# Altium footprint library Molex Footprints.PcbLib: 498 footprints (part 12 of 32)
Each footprint in its own frame and in the unit in brackets; x right, y up, seen from the top. Pads: shape width x height; smd on the part's side, far side on the other; paste and mask are expansions set on the pad; w line width, h text height; cw(c..) or ccw(c..) is an arc to the next point about the centre after c.
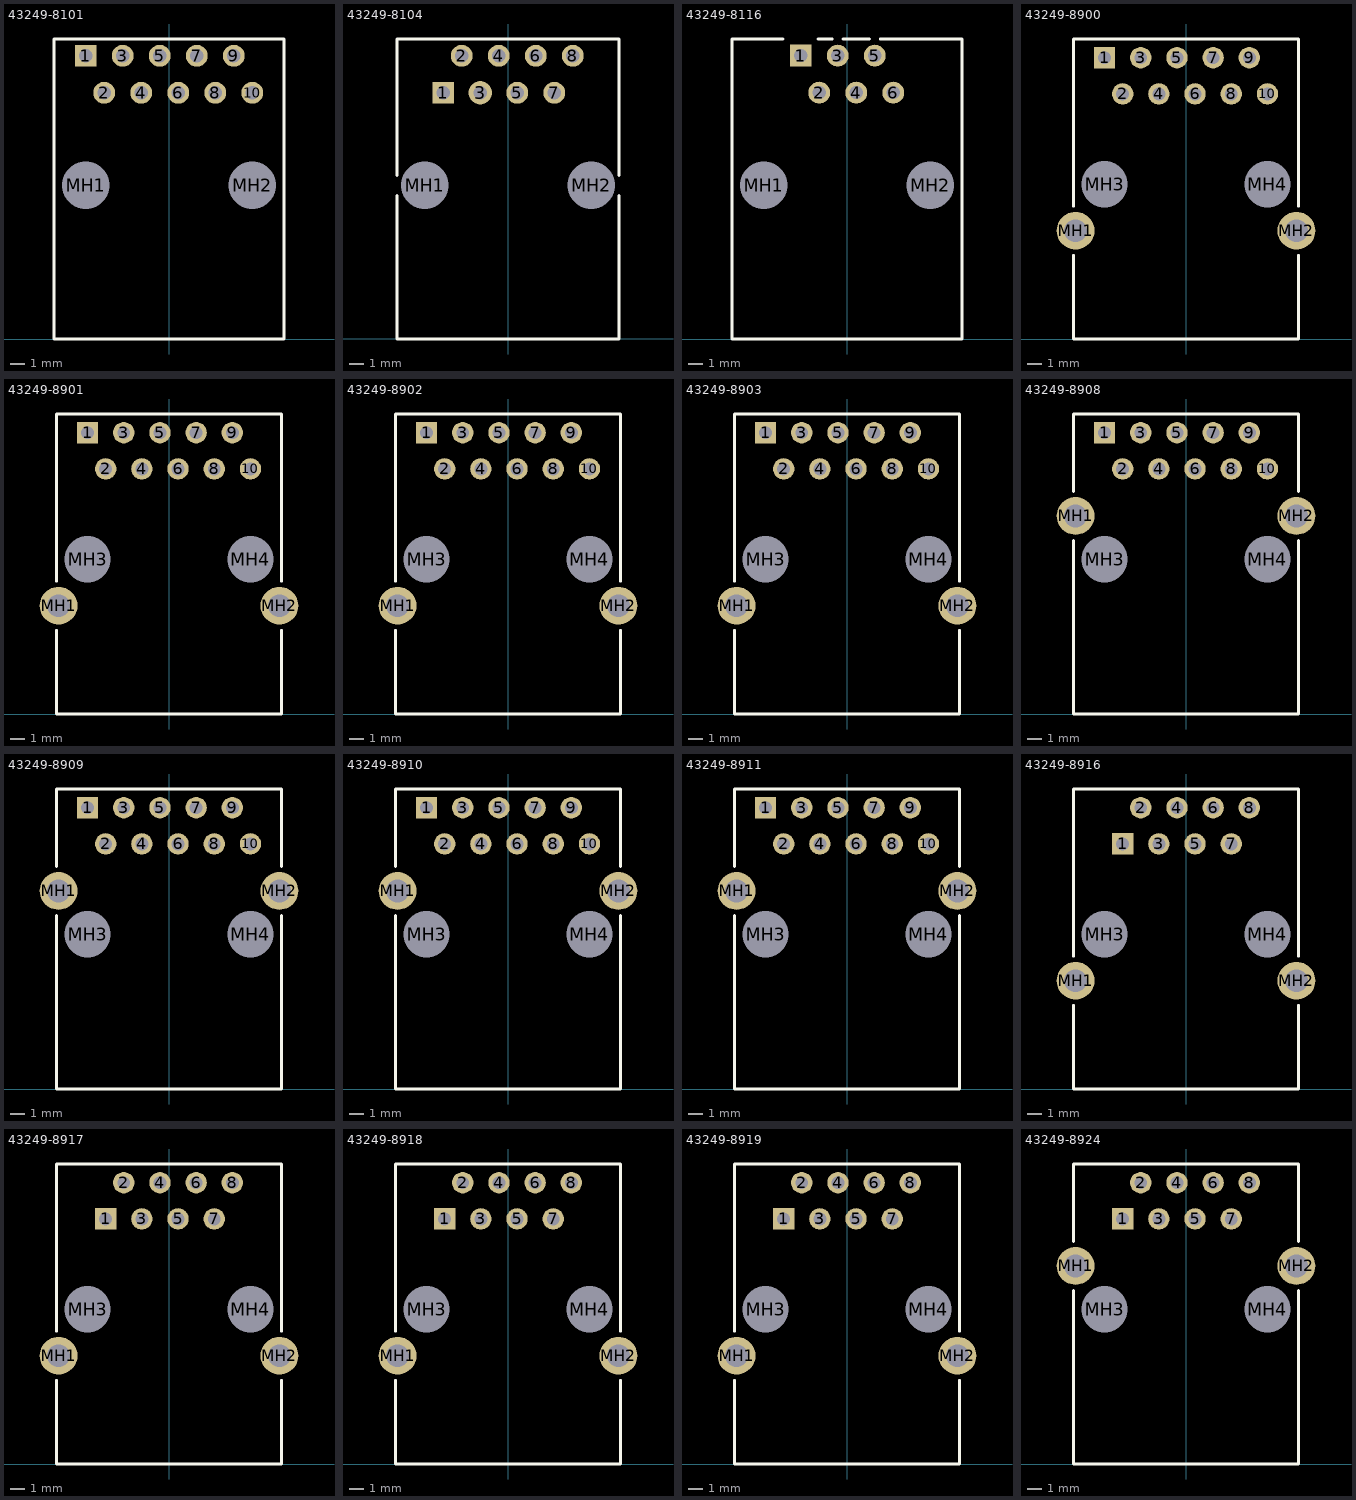
[diagram p11: the footprints below, top view; thin cyan lines are the x and y axes]

## 43249-8101 [mm] "Connector; PCB Jack, Thru-Hole; 1-Port, 8 Positions, 10 Loaded; Shielded without Lightpipes; Right Angle"
height 12.83
pads (12):
  rect 1.5x1.5 hole 0.9: 1(-5.715,19.43)
  round 1.5 hole 0.9: 2(-4.445,16.89) 3(-3.175,19.43) 4(-1.905,16.89) 5(-0.635,19.43) 6(0.635,16.89) 7(1.905,19.43) 8(3.175,16.89) 9(4.445,19.43) 10(5.715,16.89)
  round 2.95 hole 3.25 unplated: MH1(-5.715,10.54) MH2(5.715,10.54)
Top Overlay:
  lines w0.2: -7.875,0 7.875,0 7.875,20.58 -7.875,20.58 -7.875,0

## 43249-8104 [mm] "Connector; PCB Jack, Thru-Hole; 1-Port, 8 Positions, 8 Loaded; Unshielded without Lightpipes; Right Angle"
height 12.83
pads (10):
  rect 1.5x1.5 hole 0.9: 1(-4.445,16.89)
  round 1.5 hole 0.9: 2(-3.175,19.43) 4(-0.635,19.43) 5(0.635,16.89) 6(1.905,19.43) 7(3.175,16.89) 8(4.445,19.43)
  round 1.6 hole 0.9: 3(-1.905,16.89)
  round 2.95 hole 3.25 unplated: MH1(-5.715,10.54) MH2(5.715,10.54)
Top Overlay:
  lines w0.2: -7.62,9.853 -7.62,0 7.62,0 7.62,9.853 ; -7.62,11.227 -7.62,20.58 7.62,20.58 7.62,11.227

## 43249-8116 [mm] "Connector; PCB Jack, Thru-Hole; 1-Port, 8 Positions, 6 Loaded; Unshielded without Lightpipes; Right Angle"
height 12.83
pads (8):
  rect 1.5x1.5 hole 0.9: 1(-3.175,19.43)
  round 1.5 hole 0.9: 2(-1.905,16.89) 3(-0.635,19.43) 4(0.635,16.89) 5(1.905,19.43) 6(3.175,16.89)
  round 2.95 hole 3.25 unplated: MH1(-5.715,10.54) MH2(5.715,10.54)
Top Overlay:
  lines w0.2: -4.375,20.57 -7.875,20.57 -7.875,0 7.875,0 7.875,20.57 2.28,20.57 ; -1.975,20.57 -1.01,20.57 ; -0.26,20.57 1.53,20.57

## 43249-8900 [mm] "Connector; PCB Jack, Thru-Hole; 1-Port, 8 Positions, 10 Loaded; Shielded without Lightpipes; Right Angle"
height 13
pads (14):
  rect 1.5x1.5 hole 0.9: 1(-5.715,19.74)
  round 1.5 hole 0.9: 2(-4.445,17.2) 3(-3.175,19.74) 4(-1.905,17.2) 5(-0.635,19.74) 6(0.635,17.2) 7(1.905,19.74) 8(3.175,17.2) 9(4.445,19.74) 10(5.715,17.2)
  round 2.65 hole 1.6: MH1(-7.747,7.599) MH2(7.747,7.599)
  round 2.95 hole 3.25 unplated: MH3(-5.715,10.85) MH4(5.715,10.85)
Top Overlay:
  lines w0.2: -7.885,5.88 -7.885,0 7.885,0 7.885,5.88 ; -7.885,9.318 -7.885,21.05 7.885,21.05 7.885,9.318

## 43249-8901 [mm] "Connector; PCB Jack, Thru-Hole; 1-Port, 8 Positions, 10 Loaded; Shielded without Lightpipes; Right Angle"
height 13
pads (14):
  rect 1.5x1.5 hole 0.9: 1(-5.715,19.74)
  round 1.5 hole 0.9: 2(-4.445,17.2) 3(-3.175,19.74) 4(-1.905,17.2) 5(-0.635,19.74) 6(0.635,17.2) 7(1.905,19.74) 8(3.175,17.2) 9(4.445,19.74) 10(5.715,17.2)
  round 2.65 hole 1.6: MH1(-7.747,7.599) MH2(7.747,7.599)
  round 2.95 hole 3.25 unplated: MH3(-5.715,10.85) MH4(5.715,10.85)
Top Overlay:
  lines w0.2: -7.885,5.88 -7.885,0 7.885,0 7.885,5.88 ; -7.885,9.318 -7.885,21.05 7.885,21.05 7.885,9.318

## 43249-8902 [mm] "Connector; PCB Jack, Thru-Hole; 1-Port, 8 Positions, 10 Loaded; Shielded without Lightpipes; Right Angle"
height 13
pads (14):
  rect 1.5x1.5 hole 0.9: 1(-5.715,19.74)
  round 1.5 hole 0.9: 2(-4.445,17.2) 3(-3.175,19.74) 4(-1.905,17.2) 5(-0.635,19.74) 6(0.635,17.2) 7(1.905,19.74) 8(3.175,17.2) 9(4.445,19.74) 10(5.715,17.2)
  round 2.65 hole 1.6: MH1(-7.747,7.599) MH2(7.747,7.599)
  round 2.95 hole 3.25 unplated: MH3(-5.715,10.85) MH4(5.715,10.85)
Top Overlay:
  lines w0.2: -7.885,5.88 -7.885,0 7.885,0 7.885,5.88 ; -7.885,9.318 -7.885,21.05 7.885,21.05 7.885,9.318

## 43249-8903 [mm] "Connector; PCB Jack, Thru-Hole; 1-Port, 8 Positions, 10 Loaded; Shielded without Lightpipes; Right Angle"
height 13
pads (14):
  rect 1.5x1.5 hole 0.9: 1(-5.715,19.74)
  round 1.5 hole 0.9: 2(-4.445,17.2) 3(-3.175,19.74) 4(-1.905,17.2) 5(-0.635,19.74) 6(0.635,17.2) 7(1.905,19.74) 8(3.175,17.2) 9(4.445,19.74) 10(5.715,17.2)
  round 2.65 hole 1.6: MH1(-7.747,7.599) MH2(7.747,7.599)
  round 2.95 hole 3.25 unplated: MH3(-5.715,10.85) MH4(5.715,10.85)
Top Overlay:
  lines w0.2: -7.885,5.88 -7.885,0 7.885,0 7.885,5.88 ; -7.885,9.318 -7.885,21.05 7.885,21.05 7.885,9.318

## 43249-8908 [mm] "Connector; PCB Jack, Thru-Hole; 1-Port, 8 Positions, 10 Loaded; Shielded without Lightpipes; Right Angle"
height 13
pads (14):
  rect 1.5x1.5 hole 0.9: 1(-5.715,19.74)
  round 1.5 hole 0.9: 2(-4.445,17.2) 3(-3.175,19.74) 4(-1.905,17.2) 5(-0.635,19.74) 6(0.635,17.2) 7(1.905,19.74) 8(3.175,17.2) 9(4.445,19.74) 10(5.715,17.2)
  round 2.65 hole 1.6: MH1(-7.747,13.898) MH2(7.747,13.898)
  round 2.95 hole 3.25 unplated: MH3(-5.715,10.85) MH4(5.715,10.85)
Top Overlay:
  lines w0.2: -7.885,12.174 -7.885,0 7.885,0 7.885,12.174 ; -7.885,15.622 -7.885,21.05 7.885,21.05 7.885,15.622

## 43249-8909 [mm] "Connector; PCB Jack, Thru-Hole; 1-Port, 8 Positions, 10 Loaded; Shielded without Lightpipes; Right Angle"
height 13
pads (14):
  rect 1.5x1.5 hole 0.9: 1(-5.715,19.74)
  round 1.5 hole 0.9: 2(-4.445,17.2) 3(-3.175,19.74) 4(-1.905,17.2) 5(-0.635,19.74) 6(0.635,17.2) 7(1.905,19.74) 8(3.175,17.2) 9(4.445,19.74) 10(5.715,17.2)
  round 2.65 hole 1.6: MH1(-7.747,13.898) MH2(7.747,13.898)
  round 2.95 hole 3.25 unplated: MH3(-5.715,10.85) MH4(5.715,10.85)
Top Overlay:
  lines w0.2: -7.885,12.174 -7.885,0 7.885,0 7.885,12.174 ; -7.885,15.622 -7.885,21.05 7.885,21.05 7.885,15.622

## 43249-8910 [mm] "Connector; PCB Jack, Thru-Hole; 1-Port, 8 Positions, 10 Loaded; Shielded without Lightpipes; Right Angle"
height 13
pads (14):
  rect 1.5x1.5 hole 0.9: 1(-5.715,19.74)
  round 1.5 hole 0.9: 2(-4.445,17.2) 3(-3.175,19.74) 4(-1.905,17.2) 5(-0.635,19.74) 6(0.635,17.2) 7(1.905,19.74) 8(3.175,17.2) 9(4.445,19.74) 10(5.715,17.2)
  round 2.65 hole 1.6: MH1(-7.747,13.898) MH2(7.747,13.898)
  round 2.95 hole 3.25 unplated: MH3(-5.715,10.85) MH4(5.715,10.85)
Top Overlay:
  lines w0.2: -7.885,12.174 -7.885,0 7.885,0 7.885,12.174 ; -7.885,15.622 -7.885,21.05 7.885,21.05 7.885,15.622

## 43249-8911 [mm] "Connector; PCB Jack, Thru-Hole; 1-Port, 8 Positions, 10 Loaded; Shielded without Lightpipes; Right Angle"
height 13
pads (14):
  rect 1.5x1.5 hole 0.9: 1(-5.715,19.74)
  round 1.5 hole 0.9: 2(-4.445,17.2) 3(-3.175,19.74) 4(-1.905,17.2) 5(-0.635,19.74) 6(0.635,17.2) 7(1.905,19.74) 8(3.175,17.2) 9(4.445,19.74) 10(5.715,17.2)
  round 2.65 hole 1.6: MH1(-7.747,13.898) MH2(7.747,13.898)
  round 2.95 hole 3.25 unplated: MH3(-5.715,10.85) MH4(5.715,10.85)
Top Overlay:
  lines w0.2: -7.885,12.174 -7.885,0 7.885,0 7.885,12.174 ; -7.885,15.622 -7.885,21.05 7.885,21.05 7.885,15.622

## 43249-8916 [mm] "Connector; PCB Jack, Thru-Hole; 1-Port, 8 Positions, 8 Loaded; Shielded without Lightpipes; Right Angle"
height 13
pads (12):
  rect 1.5x1.5 hole 0.9: 1(-4.445,17.2)
  round 1.5 hole 0.9: 2(-3.175,19.74) 3(-1.905,17.2) 4(-0.635,19.74) 5(0.635,17.2) 6(1.905,19.74) 7(3.175,17.2) 8(4.445,19.74)
  round 2.65 hole 1.6: MH1(-7.747,7.599) MH2(7.747,7.599)
  round 2.95 hole 3.25 unplated: MH3(-5.715,10.85) MH4(5.715,10.85)
Top Overlay:
  lines w0.2: -7.885,5.88 -7.885,0 7.885,0 7.885,5.88 ; -7.885,9.318 -7.885,21.05 7.885,21.05 7.885,9.318

## 43249-8917 [mm] "Connector; PCB Jack, Thru-Hole; 1-Port, 8 Positions, 8 Loaded; Shielded without Lightpipes; Right Angle"
height 13
pads (12):
  rect 1.5x1.5 hole 0.9: 1(-4.445,17.2)
  round 1.5 hole 0.9: 2(-3.175,19.74) 3(-1.905,17.2) 4(-0.635,19.74) 5(0.635,17.2) 6(1.905,19.74) 7(3.175,17.2) 8(4.445,19.74)
  round 2.65 hole 1.6: MH1(-7.747,7.599) MH2(7.747,7.599)
  round 2.95 hole 3.25 unplated: MH3(-5.715,10.85) MH4(5.715,10.85)
Top Overlay:
  lines w0.2: -7.885,5.88 -7.885,0 7.885,0 7.885,5.88 ; -7.885,9.318 -7.885,21.05 7.885,21.05 7.885,9.318

## 43249-8918 [mm] "Connector; PCB Jack, Thru-Hole; 1-Port, 8 Positions, 8 Loaded; Shielded without Lightpipes; Right Angle"
height 13
pads (12):
  rect 1.5x1.5 hole 0.9: 1(-4.445,17.2)
  round 1.5 hole 0.9: 2(-3.175,19.74) 3(-1.905,17.2) 4(-0.635,19.74) 5(0.635,17.2) 6(1.905,19.74) 7(3.175,17.2) 8(4.445,19.74)
  round 2.65 hole 1.6: MH1(-7.747,7.599) MH2(7.747,7.599)
  round 2.95 hole 3.25 unplated: MH3(-5.715,10.85) MH4(5.715,10.85)
Top Overlay:
  lines w0.2: -7.885,5.88 -7.885,0 7.885,0 7.885,5.88 ; -7.885,9.318 -7.885,21.05 7.885,21.05 7.885,9.318

## 43249-8919 [mm] "Connector; PCB Jack, Thru-Hole; 1-Port, 8 Positions, 8 Loaded; Shielded without Lightpipes; Right Angle"
height 13
pads (12):
  rect 1.5x1.5 hole 0.9: 1(-4.445,17.2)
  round 1.5 hole 0.9: 2(-3.175,19.74) 3(-1.905,17.2) 4(-0.635,19.74) 5(0.635,17.2) 6(1.905,19.74) 7(3.175,17.2) 8(4.445,19.74)
  round 2.65 hole 1.6: MH1(-7.747,7.599) MH2(7.747,7.599)
  round 2.95 hole 3.25 unplated: MH3(-5.715,10.85) MH4(5.715,10.85)
Top Overlay:
  lines w0.2: -7.885,5.88 -7.885,0 7.885,0 7.885,5.88 ; -7.885,9.318 -7.885,21.05 7.885,21.05 7.885,9.318

## 43249-8924 [mm] "Connector; PCB Jack, Thru-Hole; 1-Port, 8 Positions, 8 Loaded; Shielded without Lightpipes; Right Angle"
height 13
pads (12):
  rect 1.5x1.5 hole 0.9: 1(-4.445,17.2)
  round 1.5 hole 0.9: 2(-3.175,19.74) 3(-1.905,17.2) 4(-0.635,19.74) 5(0.635,17.2) 6(1.905,19.74) 7(3.175,17.2) 8(4.445,19.74)
  round 2.65 hole 1.6: MH1(-7.747,13.898) MH2(7.747,13.898)
  round 2.95 hole 3.25 unplated: MH3(-5.715,10.85) MH4(5.715,10.85)
Top Overlay:
  lines w0.2: -7.885,12.174 -7.885,0 7.885,0 7.885,12.174 ; -7.885,15.622 -7.885,21.05 7.885,21.05 7.885,15.622